# Altium integrated library Reset Supervisor.IntLib: 32 symbols
Pins are listed as number, name and electrical type; pins without a type are passive.

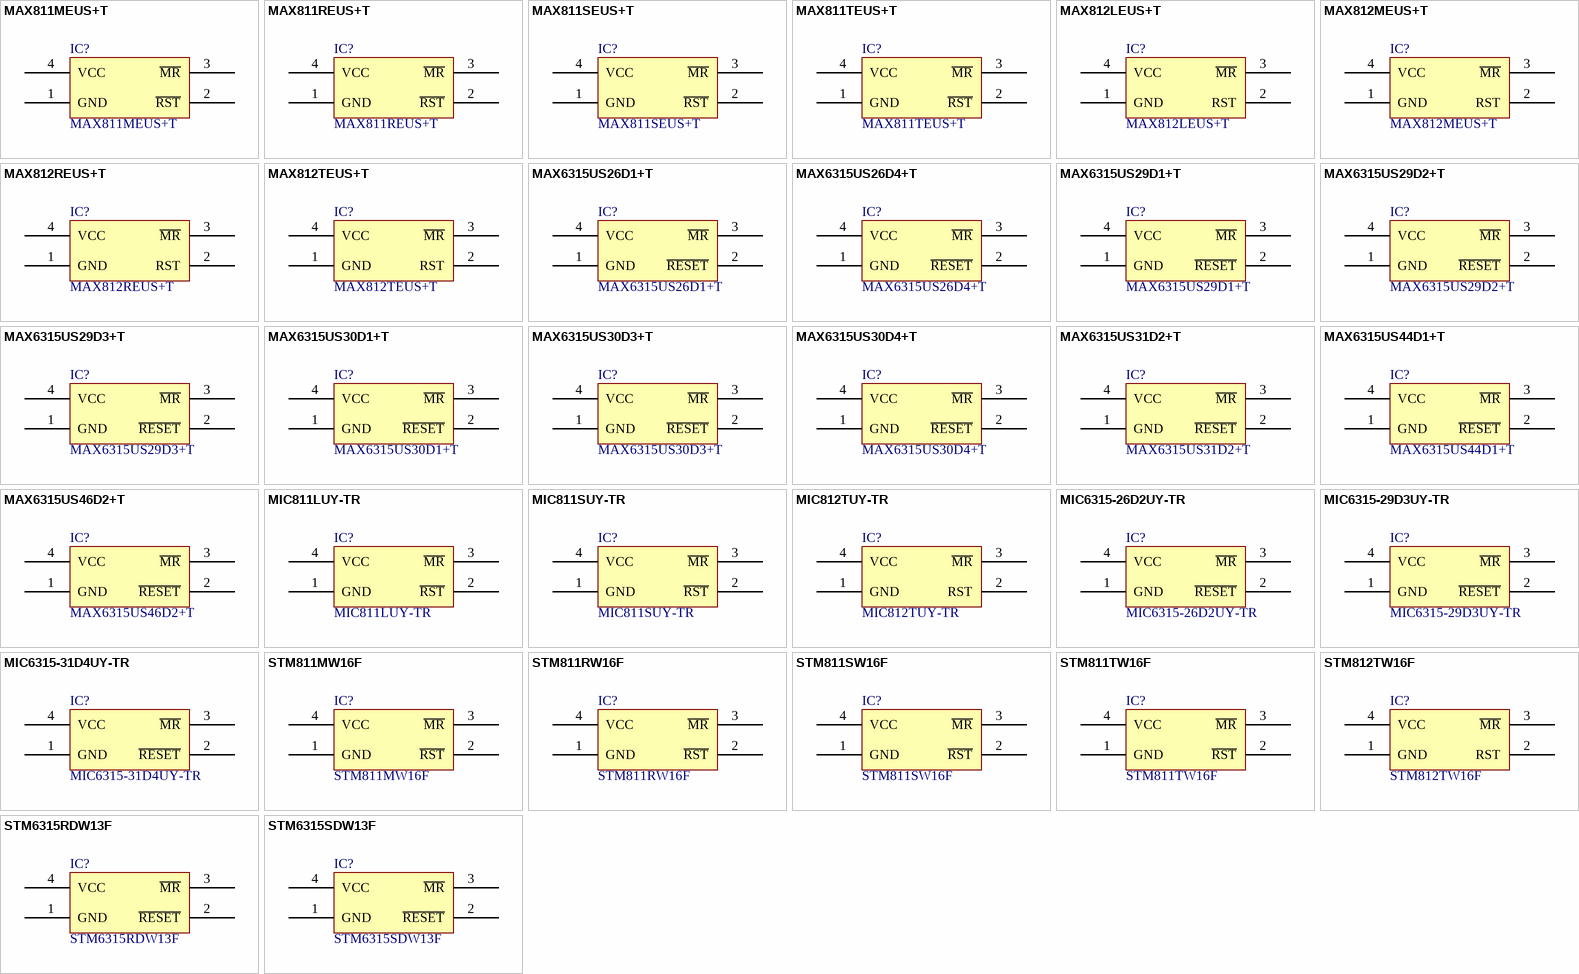
[diagram p0: symbols MAX811MEUS+T to STM6315SDW13F]

## MAX811MEUS+T
designator IC?
IC VOLT MON W/RESET SOT143-4; Manufacturer: Maxim Integrated; Voltages Monitored: 1; Output: Push-Pull, Totem Pole; Reset: Active Low; Reset Timeout: 140 ms Minimum; Voltage - Threshold: 4.38V; Part Number: MAX811MEUS+T; PartId: 16393; Supplier 1: Digi-Key; Supplier Part Number 1: MAX811MEUS+TTR-ND; ComponentLink1Description: Datasheet; ComponentLink1URL: http://datasheets.maximintegrated.com/en/ds/MAX811-MAX812T.pdf; ComponentLink2Description: Digi-Key Listing; ComponentLink2URL: https://www.digikey.com/product-detail/en/maxim-integrated/MAX811MEUS-T/MAX811MEUS-TTR-ND/1520211; Price: 1.4443; Type: Simple Reset/Power-On Reset; Device Package: TO-253-4, TO-253AA; Operating Temperature: -40C ~ 85C (TA)
footprint MAXIM SOT-143-4
pins: 1 GND, 2 ~{RST}, 3 ~{MR}, 4 VCC

## MAX811REUS+T
designator IC?
IC MPU V-MONITOR 2.63V SOT143-4; Manufacturer: Maxim Integrated; Voltages Monitored: 1; Output: Push-Pull, Totem Pole; Reset: Active Low; Reset Timeout: 140 ms Minimum; Part Number: MAX811REUS+T; PartId: 16394; Supplier 1: Digi-Key; Supplier Part Number 1: MAX811REUS+TTR-ND; ComponentLink1Description: Datasheet; ComponentLink1URL: http://datasheets.maximintegrated.com/en/ds/MAX811-MAX812T.pdf; ComponentLink2Description: Digi-Key Listing; ComponentLink2URL: https://www.digikey.com/product-detail/en/maxim-integrated/MAX811REUS-T/MAX811REUS-TTR-ND/948210; Price: 1.4443; Type: Simple Reset/Power-On Reset; Device Package: TO-253-4, TO-253AA; Operating Temperature: -40C ~ 85C (TA); Voltage - Threshold: 2.63V
footprint MAXIM SOT-143-4
pins: 1 GND, 2 ~{RST}, 3 ~{MR}, 4 VCC

## MAX811SEUS+T
designator IC?
IC MPU V-MONITOR 2.93V SOT143-4; Manufacturer: Maxim Integrated; Voltages Monitored: 1; Output: Push-Pull, Totem Pole; Reset: Active Low; Reset Timeout: 140 ms Minimum; Part Number: MAX811SEUS+T; PartId: 16395; Supplier 1: Digi-Key; Supplier Part Number 1: MAX811SEUS+TTR-ND; ComponentLink1Description: Datasheet; ComponentLink1URL: http://datasheets.maximintegrated.com/en/ds/MAX811-MAX812T.pdf; ComponentLink2Description: Digi-Key Listing; ComponentLink2URL: https://www.digikey.com/product-detail/en/maxim-integrated/MAX811SEUS-T/MAX811SEUS-TTR-ND/948211; Price: 1.4443; Type: Simple Reset/Power-On Reset; Device Package: TO-253-4, TO-253AA; Operating Temperature: -40C ~ 85C (TA); Voltage - Threshold: 2.93V
footprint MAXIM SOT-143-4
pins: 1 GND, 2 ~{RST}, 3 ~{MR}, 4 VCC

## MAX811TEUS+T
designator IC?
IC MPU V-MONITOR 3.08V SOT143-4; Manufacturer: Maxim Integrated; Voltages Monitored: 1; Output: Push-Pull, Totem Pole; Reset: Active Low; Reset Timeout: 140 ms Minimum; Part Number: MAX811TEUS+T; PartId: 16392; Supplier 1: Digi-Key; Supplier Part Number 1: MAX811TEUS+TTR-ND; ComponentLink1Description: Datasheet; ComponentLink1URL: http://datasheets.maximintegrated.com/en/ds/MAX811-MAX812T.pdf; ComponentLink2Description: Digi-Key Listing; ComponentLink2URL: https://www.digikey.com/product-detail/en/maxim-integrated/MAX811TEUS-T/MAX811TEUS-TTR-ND/948212; Price: 1.4443; Type: Simple Reset/Power-On Reset; Device Package: TO-253-4, TO-253AA; Operating Temperature: -40C ~ 85C (TA); Voltage - Threshold: 3.08V
footprint MAXIM SOT-143-4
pins: 1 GND, 2 ~{RST}, 3 ~{MR}, 4 VCC

## MAX812LEUS+T
designator IC?
IC VOLT MON W/RESET SOT143-4; Manufacturer: Maxim Integrated; Voltages Monitored: 1; Output: Push-Pull, Totem Pole; Reset: Active High; Reset Timeout: 140 ms Minimum; Voltage - Threshold: 4.63V; Part Number: MAX812LEUS+T; PartId: 16396; Supplier 1: Digi-Key; Supplier Part Number 1: MAX812LEUS+TTR-ND; ComponentLink1Description: Datasheet; ComponentLink1URL: http://datasheets.maximintegrated.com/en/ds/MAX811-MAX812T.pdf; ComponentLink2Description: Digi-Key Listing; ComponentLink2URL: https://www.digikey.com/product-detail/en/maxim-integrated/MAX812LEUS-T/MAX812LEUS-TTR-ND/1520210; Price: 1.5055; Type: Simple Reset/Power-On Reset; Device Package: TO-253-4, TO-253AA; Operating Temperature: -40C ~ 85C (TA)
footprint MAXIM SOT-143-4
pins: 1 GND, 2 RST, 3 ~{MR}, 4 VCC

## MAX812MEUS+T
designator IC?
IC VOLT MON W/RESET SOT143-4; Manufacturer: Maxim Integrated; Voltages Monitored: 1; Output: Push-Pull, Totem Pole; Reset: Active High; Reset Timeout: 140 ms Minimum; Voltage - Threshold: 4.38V; Part Number: MAX812MEUS+T; PartId: 16397; Supplier 1: Digi-Key; Supplier Part Number 1: MAX812MEUS+TTR-ND; ComponentLink1Description: Datasheet; ComponentLink1URL: http://datasheets.maximintegrated.com/en/ds/MAX811-MAX812T.pdf; ComponentLink2Description: Digi-Key Listing; ComponentLink2URL: https://www.digikey.com/product-detail/en/maxim-integrated/MAX812MEUS-T/MAX812MEUS-TTR-ND/1520293; Price: 1.5055; Type: Simple Reset/Power-On Reset; Device Package: TO-253-4, TO-253AA; Operating Temperature: -40C ~ 85C (TA)
footprint MAXIM SOT-143-4
pins: 1 GND, 2 RST, 3 ~{MR}, 4 VCC

## MAX812REUS+T
designator IC?
IC VOLT MON W/RESET SOT143-4; Manufacturer: Maxim Integrated; Voltages Monitored: 1; Output: Push-Pull, Totem Pole; Reset: Active High; Reset Timeout: 140 ms Minimum; Voltage - Threshold: 2.63V; Part Number: MAX812REUS+T; PartId: 16398; Supplier 1: Digi-Key; Supplier Part Number 1: MAX812REUS+TTR-ND; ComponentLink1Description: Datasheet; ComponentLink1URL: http://datasheets.maximintegrated.com/en/ds/MAX811-MAX812T.pdf; ComponentLink2Description: Digi-Key Listing; ComponentLink2URL: https://www.digikey.com/product-detail/en/maxim-integrated/MAX812REUS-T/MAX812REUS-TTR-ND/1520153; Price: 1.3708; Type: Simple Reset/Power-On Reset; Device Package: TO-253-4, TO-253AA; Operating Temperature: -40C ~ 85C (TA)
footprint MAXIM SOT-143-4
pins: 1 GND, 2 RST, 3 ~{MR}, 4 VCC

## MAX812TEUS+T
designator IC?
IC VOLT MON W/RESET SOT143-4; Manufacturer: Maxim Integrated; Voltages Monitored: 1; Output: Push-Pull, Totem Pole; Reset: Active High; Reset Timeout: 140 ms Minimum; Voltage - Threshold: 3.08V; Part Number: MAX812TEUS+T; PartId: 16399; Supplier 1: Digi-Key; Supplier Part Number 1: MAX812TEUS+TTR-ND; ComponentLink1Description: Datasheet; ComponentLink1URL: http://datasheets.maximintegrated.com/en/ds/MAX811-MAX812T.pdf; ComponentLink2Description: Digi-Key Listing; ComponentLink2URL: https://www.digikey.com/product-detail/en/maxim-integrated/MAX812TEUS-T/MAX812TEUS-TTR-ND/1520270; Price: 1.4932; Type: Simple Reset/Power-On Reset; Device Package: TO-253-4, TO-253AA; Operating Temperature: -40C ~ 85C (TA)
footprint MAXIM SOT-143-4
pins: 1 GND, 2 RST, 3 ~{MR}, 4 VCC

## MAX6315US26D1+T
designator IC?
IC RESET CIRCUIT 2.63V SOT143-4; Manufacturer: Maxim Integrated; Voltages Monitored: 1; Output: Open Drain or Open Collector; Reset: Active Low; Reset Timeout: 1 ms Minimum; Part Number: MAX6315US26D1+T; PartId: 16381; Supplier 1: Digi-Key; Supplier Part Number 1: MAX6315US26D1+TTR-ND; ComponentLink1Description: Datasheet; ComponentLink1URL: https://datasheets.maximintegrated.com/en/ds/MAX6315.pdf; ComponentLink2Description: Digi-Key Listing; ComponentLink2URL: https://www.digikey.com/product-detail/en/maxim-integrated/MAX6315US26D1-T/MAX6315US26D1-TTR-ND/1495554; Price: 1.3464; Type: Simple Reset/Power-On Reset; Device Package: TO-253-4, TO-253AA; Operating Temperature: -40C ~ 125C (TA); Voltage - Threshold: 2.63V
footprint MAXIM SOT-143-4
pins: 1 GND, 2 ~{RESET}, 3 ~{MR}, 4 VCC

## MAX6315US26D4+T
designator IC?
IC RESET CIRCUIT 2.63V SOT143-4; Manufacturer: Maxim Integrated; Voltages Monitored: 1; Output: Open Drain or Open Collector; Reset: Active Low; Reset Timeout: 1.12 s Minimum; Part Number: MAX6315US26D4+T; PartId: 16387; Supplier 1: Digi-Key; Supplier Part Number 1: MAX6315US26D4+T-ND; ComponentLink1Description: Datasheet; ComponentLink1URL: https://datasheets.maximintegrated.com/en/ds/MAX6315.pdf; ComponentLink2Description: Digi-Key Listing; ComponentLink2URL: https://www.digikey.com/product-detail/en/maxim-integrated/MAX6315US26D4-T/MAX6315US26D4-T-ND/1495549; Price: 4.87; Type: Simple Reset/Power-On Reset; Device Package: TO-253-4, TO-253AA; Operating Temperature: -40C ~ 125C (TA); Voltage - Threshold: 2.63V
footprint MAXIM SOT-143-4
pins: 1 GND, 2 ~{RESET}, 3 ~{MR}, 4 VCC

## MAX6315US29D1+T
designator IC?
IC RESET CIRCUIT 2.93V SOT143-4; Manufacturer: Maxim Integrated; Voltages Monitored: 1; Output: Open Drain or Open Collector; Reset: Active Low; Reset Timeout: 1 ms Minimum; Part Number: MAX6315US29D1+T; PartId: 16386; Supplier 1: Digi-Key; Supplier Part Number 1: MAX6315US29D1+T-ND; ComponentLink1Description: Datasheet; ComponentLink1URL: https://datasheets.maximintegrated.com/en/ds/MAX6315.pdf; ComponentLink2Description: Digi-Key Listing; ComponentLink2URL: https://www.digikey.com/product-detail/en/maxim-integrated/MAX6315US29D1-T/MAX6315US29D1-T-ND/3829334; Price: 4.87; Type: Simple Reset/Power-On Reset; Device Package: TO-253-4, TO-253AA; Operating Temperature: -40C ~ 125C (TA); Voltage - Threshold: 2.93V
footprint MAXIM SOT-143-4
pins: 1 GND, 2 ~{RESET}, 3 ~{MR}, 4 VCC

## MAX6315US29D2+T
designator IC?
IC RESET CIRCUIT 2.93V SOT143-4; Manufacturer: Maxim Integrated; Voltages Monitored: 1; Output: Open Drain or Open Collector; Reset: Active Low; Reset Timeout: 20 ms Minimum; Part Number: MAX6315US29D2+T; PartId: 16391; Supplier 1: Digi-Key; Supplier Part Number 1: MAX6315US29D2+T-ND; ComponentLink1Description: Datasheet; ComponentLink1URL: https://datasheets.maximintegrated.com/en/ds/MAX6315.pdf; ComponentLink2Description: Digi-Key Listing; ComponentLink2URL: https://www.digikey.com/product-detail/en/maxim-integrated/MAX6315US29D2-T/MAX6315US29D2-T-ND/1130172; Price: 5.51; Type: Simple Reset/Power-On Reset; Device Package: TO-253-4, TO-253AA; Operating Temperature: -40C ~ 125C (TA); Voltage - Threshold: 2.93V
footprint MAXIM SOT-143-4
pins: 1 GND, 2 ~{RESET}, 3 ~{MR}, 4 VCC

## MAX6315US29D3+T
designator IC?
IC RESET CIRCUIT 2.93V SOT143-4; Manufacturer: Maxim Integrated; Voltages Monitored: 1; Output: Open Drain or Open Collector; Reset: Active Low; Reset Timeout: 140 ms Minimum; Part Number: MAX6315US29D3+T; PartId: 16382; Supplier 1: Digi-Key; Supplier Part Number 1: MAX6315US29D3+TTR-ND; ComponentLink1Description: Datasheet; ComponentLink1URL: https://datasheets.maximintegrated.com/en/ds/MAX6315.pdf; ComponentLink2Description: Digi-Key Listing; ComponentLink2URL: https://www.digikey.com/product-detail/en/maxim-integrated/MAX6315US29D3-T/MAX6315US29D3-TTR-ND/1495524; Price: 1.3464; Type: Simple Reset/Power-On Reset; Device Package: TO-253-4, TO-253AA; Operating Temperature: -40C ~ 125C (TA); Voltage - Threshold: 2.93V
footprint MAXIM SOT-143-4
pins: 1 GND, 2 ~{RESET}, 3 ~{MR}, 4 VCC

## MAX6315US30D1+T
designator IC?
IC RESET CIRCUIT 3.00V SOT143-4; Manufacturer: Maxim Integrated; Voltages Monitored: 1; Output: Open Drain or Open Collector; Reset: Active Low; Reset Timeout: 1 ms Minimum; Voltage - Threshold: 3V; Part Number: MAX6315US30D1+T; PartId: 16390; Supplier 1: Digi-Key; Supplier Part Number 1: MAX6315US30D1+T-ND; ComponentLink1Description: Datasheet; ComponentLink1URL: https://datasheets.maximintegrated.com/en/ds/MAX6315.pdf; ComponentLink2Description: Digi-Key Listing; ComponentLink2URL: https://www.digikey.com/product-detail/en/maxim-integrated/MAX6315US30D1-T/MAX6315US30D1-T-ND/1495590; Price: 5.51; Type: Simple Reset/Power-On Reset; Device Package: TO-253-4, TO-253AA; Operating Temperature: -40C ~ 125C (TA)
footprint MAXIM SOT-143-4
pins: 1 GND, 2 ~{RESET}, 3 ~{MR}, 4 VCC

## MAX6315US30D3+T
designator IC?
IC RESET CIRCUIT 3.00V SOT143-4; Manufacturer: Maxim Integrated; Voltages Monitored: 1; Output: Open Drain or Open Collector; Reset: Active Low; Reset Timeout: 140 ms Minimum; Voltage - Threshold: 3V; Part Number: MAX6315US30D3+T; PartId: 16389; Supplier 1: Digi-Key; Supplier Part Number 1: MAX6315US30D3+T-ND; ComponentLink1Description: Datasheet; ComponentLink1URL: https://datasheets.maximintegrated.com/en/ds/MAX6315.pdf; ComponentLink2Description: Digi-Key Listing; ComponentLink2URL: https://www.digikey.com/product-detail/en/maxim-integrated/MAX6315US30D3-T/MAX6315US30D3-T-ND/1495474; Price: 5.51; Type: Simple Reset/Power-On Reset; Device Package: TO-253-4, TO-253AA; Operating Temperature: -40C ~ 125C (TA)
footprint MAXIM SOT-143-4
pins: 1 GND, 2 ~{RESET}, 3 ~{MR}, 4 VCC

## MAX6315US30D4+T
designator IC?
IC RESET CIRCUIT 3.00V SOT143-4; Manufacturer: Maxim Integrated; Voltages Monitored: 1; Output: Open Drain or Open Collector; Reset: Active Low; Reset Timeout: 1.12 s Minimum; Voltage - Threshold: 3V; Part Number: MAX6315US30D4+T; PartId: 16384; Supplier 1: Digi-Key; Supplier Part Number 1: MAX6315US30D4+T-ND; ComponentLink1Description: Datasheet; ComponentLink1URL: https://datasheets.maximintegrated.com/en/ds/MAX6315.pdf; ComponentLink2Description: Digi-Key Listing; ComponentLink2URL: https://www.digikey.com/product-detail/en/maxim-integrated/MAX6315US30D4-T/MAX6315US30D4-T-ND/1495741; Price: 4.87; Type: Simple Reset/Power-On Reset; Device Package: TO-253-4, TO-253AA; Operating Temperature: -40C ~ 125C (TA)
footprint MAXIM SOT-143-4
pins: 1 GND, 2 ~{RESET}, 3 ~{MR}, 4 VCC

## MAX6315US31D2+T
designator IC?
IC RESET CIRCUIT 3.08V SOT143-4; Manufacturer: Maxim Integrated; Voltages Monitored: 1; Output: Open Drain or Open Collector; Reset: Active Low; Reset Timeout: 20 ms Minimum; Part Number: MAX6315US31D2+T; PartId: 16388; Supplier 1: Digi-Key; Supplier Part Number 1: MAX6315US31D2+T-ND; ComponentLink1Description: Datasheet; ComponentLink1URL: https://datasheets.maximintegrated.com/en/ds/MAX6315.pdf; ComponentLink2Description: Digi-Key Listing; ComponentLink2URL: https://www.digikey.com/product-detail/en/maxim-integrated/MAX6315US31D2-T/MAX6315US31D2-T-ND/1495624; Price: 4.87; Type: Simple Reset/Power-On Reset; Device Package: TO-253-4, TO-253AA; Operating Temperature: -40C ~ 125C (TA); Voltage - Threshold: 3.08V
footprint MAXIM SOT-143-4
pins: 1 GND, 2 ~{RESET}, 3 ~{MR}, 4 VCC

## MAX6315US44D1+T
designator IC?
IC RESET CIRCUIT 4.39V SOT143-4; Manufacturer: Maxim Integrated; Voltages Monitored: 1; Output: Open Drain or Open Collector; Reset: Active Low; Reset Timeout: 1 ms Minimum; Part Number: MAX6315US44D1+T; PartId: 16383; Supplier 1: Digi-Key; Supplier Part Number 1: MAX6315US44D1+T-ND; ComponentLink1Description: Datasheet; ComponentLink1URL: https://datasheets.maximintegrated.com/en/ds/MAX6315.pdf; ComponentLink2Description: Digi-Key Listing; ComponentLink2URL: https://www.digikey.com/product-detail/en/maxim-integrated/MAX6315US44D1-T/MAX6315US44D1-T-ND/1495675; Price: 4.87; Type: Simple Reset/Power-On Reset; Device Package: TO-253-4, TO-253AA; Operating Temperature: -40C ~ 125C (TA); Voltage - Threshold: 4.39V
footprint MAXIM SOT-143-4
pins: 1 GND, 2 ~{RESET}, 3 ~{MR}, 4 VCC

## MAX6315US46D2+T
designator IC?
IC RESET CIRCUIT 4.63V SOT143-4; Manufacturer: Maxim Integrated; Voltages Monitored: 1; Output: Open Drain or Open Collector; Reset: Active Low; Reset Timeout: 20 ms Minimum; Part Number: MAX6315US46D2+T; PartId: 16385; Supplier 1: Digi-Key; Supplier Part Number 1: MAX6315US46D2+T-ND; ComponentLink1Description: Datasheet; ComponentLink1URL: https://datasheets.maximintegrated.com/en/ds/MAX6315.pdf; ComponentLink2Description: Digi-Key Listing; ComponentLink2URL: https://www.digikey.com/product-detail/en/maxim-integrated/MAX6315US46D2-T/MAX6315US46D2-T-ND/1495609; Price: 4.87; Type: Simple Reset/Power-On Reset; Device Package: TO-253-4, TO-253AA; Operating Temperature: -40C ~ 125C (TA); Voltage - Threshold: 4.63V
footprint MAXIM SOT-143-4
pins: 1 GND, 2 ~{RESET}, 3 ~{MR}, 4 VCC

## MIC811LUY-TR
designator IC?
IC SUPERVISOR RESET 4.63V SOT143; Manufacturer: Microchip Technology; Voltages Monitored: 1; Output: Push-Pull, Totem Pole; Reset: Active Low; Reset Timeout: 140 ms Minimum; Part Number: MIC811LUY-TR; PartId: 16376; Supplier 1: Digi-Key; Supplier Part Number 1: 576-1324-2-ND; ComponentLink1Description: Datasheet; ComponentLink1URL: http://www.microchip.com/mymicrochip/filehandler.aspx?ddocname=en580655; ComponentLink2Description: Digi-Key Listing; ComponentLink2URL: http://www.digikey.com/product-detail/en/microchip-technology/MIC811LUY-TR/576-1324-2-ND/771793; Price: 0.48; Type: Simple Reset/Power-On Reset; Device Package: TO-253-4, TO-253AA; Operating Temperature: -40C ~ 85C (TA); Voltage - Threshold: 4.63V
footprint MICROCHIP SOT-143-4
pins: 1 GND, 2 ~{RST}, 3 ~{MR}, 4 VCC

## MIC811SUY-TR
designator IC?
IC SUPERVISOR RESET 2.93V SOT143; Manufacturer: Microchip Technology; Voltages Monitored: 1; Output: Push-Pull, Totem Pole; Reset: Active Low; Reset Timeout: 140 ms Minimum; Part Number: MIC811SUY-TR; PartId: 16375; Supplier 1: Digi-Key; Supplier Part Number 1: 576-1325-2-ND; ComponentLink1Description: Datasheet; ComponentLink1URL: http://www.microchip.com/mymicrochip/filehandler.aspx?ddocname=en580655; ComponentLink2Description: Digi-Key Listing; ComponentLink2URL: http://www.digikey.com/product-detail/en/microchip-technology/MIC811SUY-TR/576-1325-2-ND/771794; Price: 0.48; Type: Simple Reset/Power-On Reset; Device Package: TO-253-4, TO-253AA; Operating Temperature: -40C ~ 85C (TA); Voltage - Threshold: 2.93V
footprint MICROCHIP SOT-143-4
pins: 1 GND, 2 ~{RST}, 3 ~{MR}, 4 VCC

## MIC812TUY-TR
designator IC?
IC RESET GEN 3.08V VTH SOT143-4; Manufacturer: Microchip Technology; Voltages Monitored: 1; Output: Push-Pull, Totem Pole; Reset: Active High; Reset Timeout: 140 ms Minimum; Part Number: MIC812TUY-TR; PartId: 16377; Supplier 1: Digi-Key; Supplier Part Number 1: 1611-MIC812TUY-CT-ND; ComponentLink1Description: Datasheet; ComponentLink1URL: http://www.microchip.com/mymicrochip/filehandler.aspx?ddocname=en580655; ComponentLink2Description: Digi-Key Listing; ComponentLink2URL: http://www.digikey.com/product-detail/en/microchip-technology/MIC812TUY-TR/1611-MIC812TUY-CT-ND/5700592; Price: 0.29; Type: Simple Reset/Power-On Reset; Device Package: TO-253-4, TO-253AA; Operating Temperature: -40C ~ 85C (TA); Voltage - Threshold: 3.08V
footprint MICROCHIP SOT-143-4
pins: 1 GND, 2 RST, 3 ~{MR}, 4 VCC

## MIC6315-26D2UY-TR
designator IC?
IC RESET GEN 2.63V VTH SOT143-4; Manufacturer: Microchip Technology; Voltages Monitored: 1; Output: Open Drain or Open Collector; Reset: Active Low; Reset Timeout: 20 ms Minimum; Part Number: MIC6315-26D2UY-TR; PartId: 16380; Supplier 1: Digi-Key; Supplier Part Number 1: 576-2885-2-ND; ComponentLink1Description: Datasheet; ComponentLink1URL: http://www.microchip.com/mymicrochip/filehandler.aspx?ddocname=en580550; ComponentLink2Description: Digi-Key Listing; ComponentLink2URL: https://www.digikey.com/product-detail/en/microchip-technology/MIC6315-26D2UY-TR/576-2885-2-ND/1031218; Price: 0.52; Type: Simple Reset/Power-On Reset; Device Package: TO-253-4, TO-253AA; Operating Temperature: -40C ~ 85C (TA); Voltage - Threshold: 2.63V
footprint MICROCHIP SOT-143-4
pins: 1 GND, 2 ~{RESET}, 3 ~{MR}, 4 VCC

## MIC6315-29D3UY-TR
designator IC?
IC RESET GEN 2.93V VTH SOT143-4; Manufacturer: Microchip Technology; Voltages Monitored: 1; Output: Open Drain or Open Collector; Reset: Active Low; Reset Timeout: 140 ms Minimum; Part Number: MIC6315-29D3UY-TR; PartId: 16378; Supplier 1: Digi-Key; Supplier Part Number 1: 576-2887-2-ND; ComponentLink1Description: Datasheet; ComponentLink1URL: http://www.microchip.com/mymicrochip/filehandler.aspx?ddocname=en580550; ComponentLink2Description: Digi-Key Listing; ComponentLink2URL: https://www.digikey.com/product-detail/en/microchip-technology/MIC6315-29D3UY-TR/576-2887-2-ND/1031226; Price: 0.52; Type: Simple Reset/Power-On Reset; Device Package: TO-253-4, TO-253AA; Operating Temperature: -40C ~ 85C (TA); Voltage - Threshold: 2.93V
footprint MICROCHIP SOT-143-4
pins: 1 GND, 2 ~{RESET}, 3 ~{MR}, 4 VCC

## MIC6315-31D4UY-TR
designator IC?
IC RESET GEN 3.08V VTH SOT143-4; Manufacturer: Microchip Technology; Voltages Monitored: 1; Output: Open Drain or Open Collector; Reset: Active Low; Reset Timeout: 1.1 s Minimum; Part Number: MIC6315-31D4UY-TR; PartId: 16379; Supplier 1: Digi-Key; Supplier Part Number 1: 576-2893-2-ND; ComponentLink1Description: Datasheet; ComponentLink1URL: http://www.microchip.com/mymicrochip/filehandler.aspx?ddocname=en580550; ComponentLink2Description: Digi-Key Listing; ComponentLink2URL: https://www.digikey.com/product-detail/en/microchip-technology/MIC6315-31D4UY-TR/576-2893-2-ND/1031240; Price: 0.52; Type: Simple Reset/Power-On Reset; Device Package: TO-253-4, TO-253AA; Operating Temperature: -40C ~ 85C (TA); Voltage - Threshold: 3.08V
footprint MICROCHIP SOT-143-4
pins: 1 GND, 2 ~{RESET}, 3 ~{MR}, 4 VCC

## STM811MW16F
designator IC?
IC MPU RESET CIRC 4.38V SOT143-4; Manufacturer: STMicroelectronics; Voltages Monitored: 1; Output: Push-Pull, Totem Pole; Reset: Active Low; Reset Timeout: 140 ms Minimum; Part Number: STM811MW16F; PartId: 16372; Supplier 1: Digi-Key; Supplier Part Number 1: 497-3346-2-ND; ComponentLink1Description: Datasheet; ComponentLink1URL: http://www.st.com/web/en/resource/technical/document/datasheet/CD00003591.pdf; ComponentLink2Description: Digi-Key Listing; ComponentLink2URL: https://www.digikey.com/product-detail/en/stmicroelectronics/STM811MW16F/497-3346-2-ND/666759; Price: 0.2508; Type: Simple Reset/Power-On Reset; Device Package: TO-253-4, TO-253AA; Operating Temperature: -40C ~ 85C (TA); Voltage - Threshold: 4.38V
footprint ST SOT-143-4
pins: 1 GND, 2 ~{RST}, 3 ~{MR}, 4 VCC

## STM811RW16F
designator IC?
IC MPU RESET CIRC 2.63V SOT143-4; Manufacturer: STMicroelectronics; Voltages Monitored: 1; Output: Push-Pull, Totem Pole; Reset: Active Low; Reset Timeout: 140 ms Minimum; Part Number: STM811RW16F; PartId: 16371; Supplier 1: Digi-Key; Supplier Part Number 1: 497-3347-2-ND; ComponentLink1Description: Datasheet; ComponentLink1URL: http://www.st.com/web/en/resource/technical/document/datasheet/CD00003591.pdf; ComponentLink2Description: Digi-Key Listing; ComponentLink2URL: https://www.digikey.com/product-detail/en/stmicroelectronics/STM811RW16F/497-3347-2-ND/666762; Price: 0.2465; Type: Simple Reset/Power-On Reset; Device Package: TO-253-4, TO-253AA; Operating Temperature: -40C ~ 85C (TA); Voltage - Threshold: 2.63V
footprint ST SOT-143-4
pins: 1 GND, 2 ~{RST}, 3 ~{MR}, 4 VCC

## STM811SW16F
designator IC?
IC MPU RESET CIRC 2.93V SOT143-4; Manufacturer: STMicroelectronics; Voltages Monitored: 1; Output: Push-Pull, Totem Pole; Reset: Active Low; Reset Timeout: 140 ms Minimum; Part Number: STM811SW16F; PartId: 16369; Supplier 1: Digi-Key; Supplier Part Number 1: 497-3348-2-ND; ComponentLink1Description: Datasheet; ComponentLink1URL: http://www.st.com/web/en/resource/technical/document/datasheet/CD00003591.pdf; ComponentLink2Description: Digi-Key Listing; ComponentLink2URL: https://www.digikey.com/product-detail/en/stmicroelectronics/STM811SW16F/497-3348-2-ND/666764; Price: 0.1968; Type: Simple Reset/Power-On Reset; Device Package: TO-253-4, TO-253AA; Operating Temperature: -40C ~ 85C (TA); Voltage - Threshold: 2.93V
footprint ST SOT-143-4
pins: 1 GND, 2 ~{RST}, 3 ~{MR}, 4 VCC

## STM811TW16F
designator IC?
IC MPU RESET CIRC 3.08V SOT143-4; Manufacturer: STMicroelectronics; Voltages Monitored: 1; Output: Push-Pull, Totem Pole; Reset: Active Low; Reset Timeout: 140 ms Minimum; Part Number: STM811TW16F; PartId: 16370; Supplier 1: Digi-Key; Supplier Part Number 1: 497-3349-2-ND; ComponentLink1Description: Datasheet; ComponentLink1URL: http://www.st.com/web/en/resource/technical/document/datasheet/CD00003591.pdf; ComponentLink2Description: Digi-Key Listing; ComponentLink2URL: https://www.digikey.com/product-detail/en/stmicroelectronics/STM811TW16F/497-3349-2-ND/666766; Price: 0.1968; Type: Simple Reset/Power-On Reset; Device Package: TO-253-4, TO-253AA; Operating Temperature: -40C ~ 85C (TA); Voltage - Threshold: 3.08V
footprint ST SOT-143-4
pins: 1 GND, 2 ~{RST}, 3 ~{MR}, 4 VCC

## STM812TW16F
designator IC?
IC MPU RESET CIRC 3.08V SOT143-4; Manufacturer: STMicroelectronics; Voltages Monitored: 1; Output: Push-Pull, Totem Pole; Reset: Active High; Reset Timeout: 140 ms Minimum; Part Number: STM812TW16F; PartId: 16373; Supplier 1: Digi-Key; Supplier Part Number 1: 497-3354-2-ND; ComponentLink1Description: Datasheet; ComponentLink1URL: http://www.st.com/web/en/resource/technical/document/datasheet/CD00003591.pdf; ComponentLink2Description: Digi-Key Listing; ComponentLink2URL: http://www.digikey.com/product-detail/en/stmicroelectronics/STM812TW16F/497-3354-2-ND/666775; Price: 0.2465; Type: Simple Reset/Power-On Reset; Device Package: TO-253-4, TO-253AA; Operating Temperature: -40C ~ 85C (TA); Voltage - Threshold: 3.08V
footprint ST SOT-143-4
pins: 1 GND, 2 RST, 3 ~{MR}, 4 VCC

## STM6315RDW13F
designator IC?
IC MPU RESET CIRC 2.63V SOT-143; Manufacturer: STMicroelectronics; Voltages Monitored: 1; Output: Open Drain or Open Collector; Reset: Active Low; Reset Timeout: 112 ms Minimum; Part Number: STM6315RDW13F; PartId: 16374; Supplier 1: Digi-Key; Supplier Part Number 1: 497-5127-2-ND; ComponentLink1Description: Datasheet; ComponentLink1URL: http://www.st.com/web/en/resource/technical/document/datasheet/CD00081393.pdf; ComponentLink2Description: Digi-Key Listing; ComponentLink2URL: http://www.digikey.com/product-detail/en/stmicroelectronics/STM6315RDW13F/497-5127-2-ND/1117481; Price: 0.3976; Type: Simple Reset/Power-On Reset; Device Package: TO-253-4, TO-253AA; Operating Temperature: -40C ~ 125C (TA); Voltage - Threshold: 2.63V
footprint ST SOT-143-4
pins: 1 GND, 2 ~{RESET}, 3 ~{MR}, 4 VCC

## STM6315SDW13F
designator IC?
IC MPU RESET 2.93V 210MS SOT143-; Manufacturer: STMicroelectronics; Voltages Monitored: 1; Output: Open Drain or Open Collector; Reset: Active Low; Reset Timeout: 112 ms Minimum; Part Number: STM6315SDW13F; PartId: 16368; Supplier 1: Digi-Key; Supplier Part Number 1: 497-4975-2-ND; ComponentLink1Description: Datasheet; ComponentLink1URL: http://www.st.com/web/en/resource/technical/document/datasheet/CD00081393.pdf; ComponentLink2Description: Digi-Key Listing; ComponentLink2URL: http://www.digikey.com/product-detail/en/stmicroelectronics/STM6315SDW13F/497-4975-2-ND/1003395; Price: 0.2185; Type: Simple Reset/Power-On Reset; Device Package: TO-253-4, TO-253AA; Operating Temperature: -40C ~ 125C (TA); Voltage - Threshold: 2.93V
footprint ST SOT-143-4
pins: 1 GND, 2 ~{RESET}, 3 ~{MR}, 4 VCC